# EAGLE library part STM (library DEEP_MainBoard — kopia)
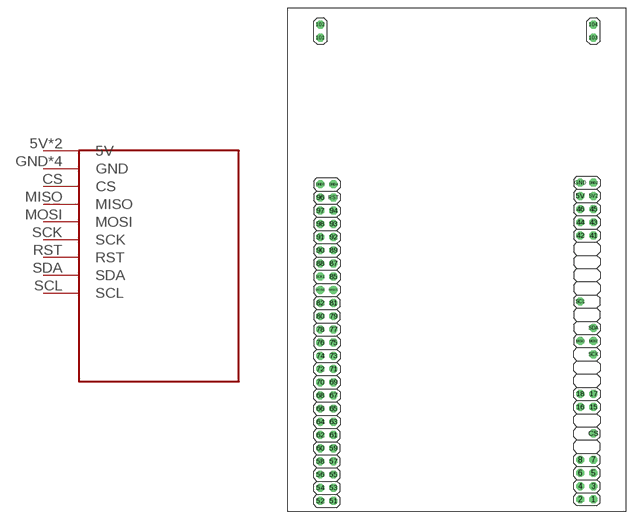
[diagram p1: symbol with the pads of STM; footprint STM]

Designator prefix -

## STM  [STM]
5V  5V
5V2  5V
CS  CS
GND  GND
GND2  GND
GND3  GND
GND4  GND
MISO  MISO
MOSI  MOSI
RST  RST
SCK  SCK
SCL  SCL
SDA  SDA

## Footprint STM (pad centres in mm)
drill 1.016 octagon: 1 58.78,2.37; 2 56.24,2.37; 3 58.78,4.91; 4 56.24,4.91; 5 58.78,7.45; 5V 56.24,60.79; 5V2 58.78,60.79; 6 56.24,7.45; 7 58.78,9.99; 8 56.24,9.99; 15 58.78,20.15; 16 56.24,20.15; 17 58.78,22.69; 18 56.24,22.69; 41 58.78,53.17; 42 56.24,53.17; 43 58.78,55.71; 44 56.24,55.71; 45 58.78,58.25; 46 56.24,58.25; 51 8.78,2.07; 52 6.24,2.07; 53 8.78,4.61; 54 6.24,4.61; 55 8.78,7.15; 56 6.24,7.15; 57 8.78,9.69; 58 6.24,9.69; 59 8.78,12.23; 60 6.24,12.23; 61 8.78,14.77; 62 6.24,14.77; 63 8.78,17.31; 64 6.24,17.31; 65 8.78,19.85; 66 6.24,19.85; 67 8.78,22.39; 68 6.24,22.39; 69 8.78,24.93; 70 6.24,24.93; 71 8.78,27.47; 72 6.24,27.47; 73 8.78,30.01; 74 6.24,30.01; 75 8.78,32.55; 76 6.24,32.55; 77 8.78,35.09; 78 6.24,35.09; 79 8.78,37.63; 80 6.24,37.63; 81 8.78,40.17; 82 6.24,40.17; 85 8.78,45.25; 87 8.78,47.79; 88 6.24,47.79; 89 8.78,50.33; 90 6.24,50.33; 91 6.24,52.87; 92 8.78,52.87; 93 8.78,55.41; 94 8.78,57.95; 96 6.24,60.49; 97 6.24,57.95; 98 6.24,55.41; 101 6.27,91.24; 102 6.27,93.78; 103 58.77,91.24; 104 58.77,93.78; CS 58.78,15.07; GND 56.24,63.33; GND2 58.78,63.33; GND3 6.24,63.03; GND4 8.78,63.03; MISO 56.24,32.85; MISO1 8.78,42.71; MOSI 58.78,32.85; MOSI1 6.24,42.71; RST 8.78,60.49; SCK 58.78,30.31; SCK1 6.24,45.25; SCL 56.24,40.47; SDA 58.78,35.39